# EAGLE library part LT6105CMS8#PBF-ND (library AS-2-Extras)
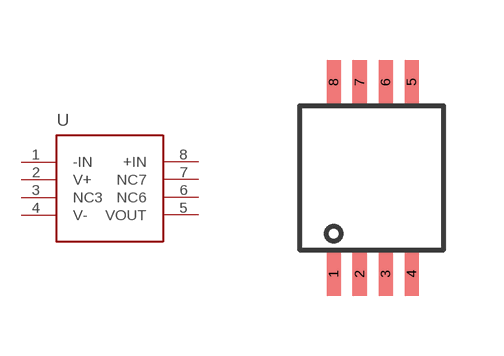
[diagram p0: symbol with the pads of LT6105; footprint LT6105]

Designator prefix -

## LT6105CMS8#PBF-ND  [LT6105]
1  -IN
2  V+
3  NC3
4  V-
5  VOUT
6  NC6
7  NC7
8  +IN

## Footprint LT6105 (pad centres in mm)
smd 0.35 x 1.1: 1 -0.95,-2.4; 2 -0.3,-2.4; 3 0.35,-2.4; 4 1,-2.4; 5 1,2.4; 6 0.35,2.4; 7 -0.3,2.4; 8 -0.95,2.4